# Altium schematic symbol library WF_Connector.SchLib: 9 symbols
Pins are listed as number, name and electrical type; pins without a type are passive.

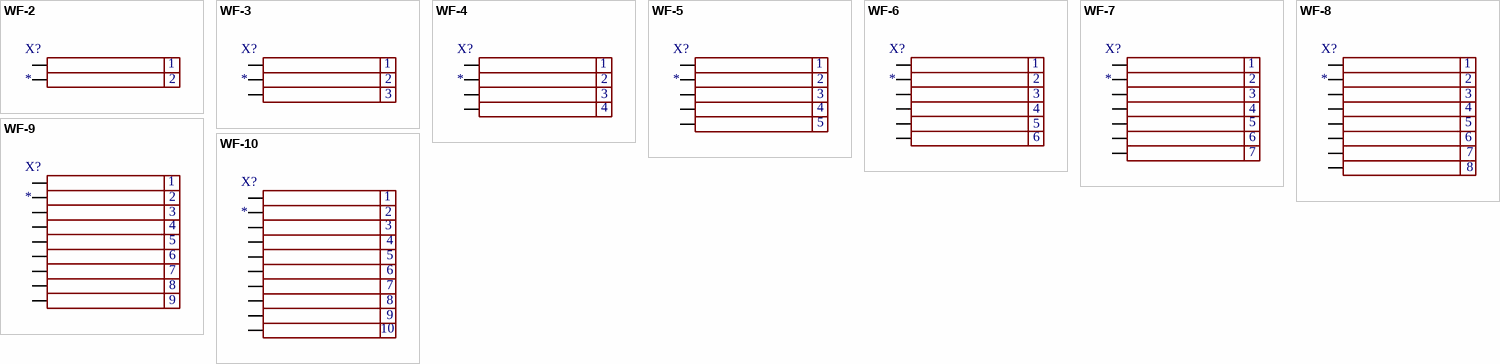
[diagram p0: symbols WF-2 to WF-10]

## WF-2
designator X?
footprint WF-2
pins: 1, 2

## WF-3
designator X?
footprint WF-3
pins: 1, 2, 3

## WF-4
designator X?
footprint WF-4
pins: 1, 2, 3, 4

## WF-5
designator X?
footprint WF-5
pins: 1, 2, 3, 4, 5

## WF-6
designator X?
footprint WF-6
pins: 1, 2, 3, 4, 5, 6

## WF-7
designator X?
footprint WF-7
pins: 1, 2, 3, 4, 5, 6, 7

## WF-8
designator X?
footprint WF-8
pins: 1, 2, 3, 4, 5, 6, 7, 8

## WF-9
designator X?
footprint WF-9
pins: 1, 2, 3, 4, 5, 6, 7, 8, 9

## WF-10
designator X?
footprint WF-10
pins: 1, 2, 3, 4, 5, 6, 7, 8, 9, 10